# EAGLE library part BLDC-DRIVER (library buksir)
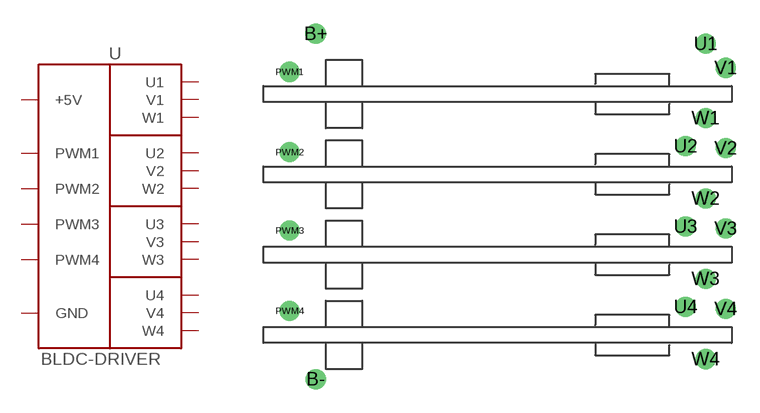
[diagram p0: symbol with the pads of BLDC-DRIVER; footprint BLDC-DRIVER]

Designator prefix U

## BLDC-DRIVER  [BLDC-DRIVER]
B+  +5V
B-  GND
PWM1  PWM1
PWM2  PWM2
PWM3  PWM3
PWM4  PWM4
U1  U1
U2  U2
U3  U3
U4  U4
V1  V1
V2  V2
V3  V3
V4  V4
W1  W1
W2  W2
W3  W3
W4  W4

## Footprint BLDC-DRIVER (pad centres in mm)
drill 0.7 pad 1.27: B+ 2.032,11.43; B- 2.032,-10.414; PWM1 0.381,9.017; PWM2 0.381,3.937; PWM3 0.381,-1.016; PWM4 0.381,-6.096; U1 26.67,10.795; U2 25.4,4.318; U3 25.4,-0.762; U4 25.4,-5.842; V1 27.94,9.271; V2 27.94,4.191; V3 27.94,-0.889; V4 27.94,-5.969; W1 26.67,6.096; W2 26.67,1.016; W3 26.67,-4.064; W4 26.67,-9.144